# EAGLE library part AE5592H-1592 (library saw-filters-narrowband)
AE5592H-1592 Параметр Ед. изм. Мин. значение Тип. значение Макс. значение Центральная частота МГц 1590 1592 1594 Минимальное вносимое затухание дБ - 3 3.5 Полоса среза по уровню -2 дБ МГц 55 60 - Полоса среза по уровню -15 дБ МГц - 150 - Неравномерность АЧХ дБ - 1 2 Групповое время задержки нс - - - Гарантированное затухание дБ - 25 - Температурный диапазон °C -55 22 +85 Материал подложки - - Ниобат лития 64 -
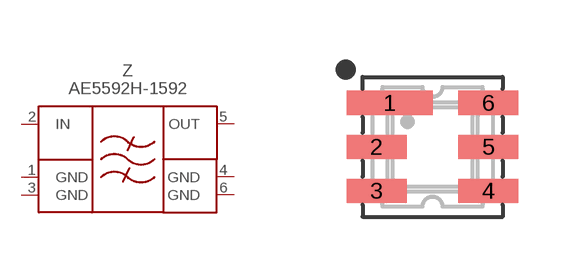
[diagram p5: symbol with the pads of DCC6; footprint DCC6]

Designator prefix Z

## AE5592H-1592  [DCC6]
1  GND  pwr
2  IN  in
3  GND  pwr
4  GND  pwr
5  OUT  out
6  GND  pwr

## Footprint DCC6 (pad centres in mm)
smd 2.15 x 0.6: 1 -1.075,1.1
smd 1.5 x 0.6: 2 -1.4,0; 3 -1.4,-1.1; 4 1.4,-1.1; 5 1.4,0; 6 1.4,1.1